# Altium schematic symbol library SMBJ28A.SchLib: 1 symbol
Pins are listed as number, name and electrical type; pins without a type are passive.

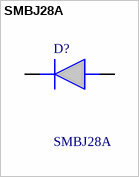
[diagram p0: symbol SMBJ28A]

## SMBJ28A
designator D?
Littelfuse SMBJ28A Uni-Directional TVS Diode, 600W peak, 2-Pin DO-214AA; Geometry.Height: 2.61mm; Mouser Part Number: 576-SMBJ28A; Mouser Price/Stock: https://www.mouser.co.uk/ProductDetail/Littelfuse/SMBJ28A?qs=JJML70Qc14vmSTVTa1LvqQ%3D%3D; Manufacturer_Name: LITTELFUSE; Manufacturer_Part_Number: SMBJ28A; Datasheet Link: https://componentsearchengine.com/Datasheets/2/SMBJ28A.pdf
footprint DIOM5436X261N
pins: 1 K, 2 A